# Altium schematic symbol library MCP1640BT-I-CHY.SchLib: 1 symbol
Pins are listed as number, name and electrical type; pins without a type are passive.

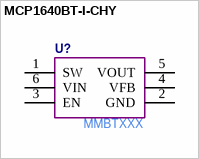
[diagram p0: symbol MCP1640BT-I-CHY]

## MCP1640BT-I-CHY
designator U?  Manufacturer Part Number: MMBTXXX  (hidden comment: *)
pins: 1 SW, 2 GND, 3 EN, 4 VFB, 5 VOUT, 6 VIN